# EAGLE library part ATMEGA2560 (library Atmel)
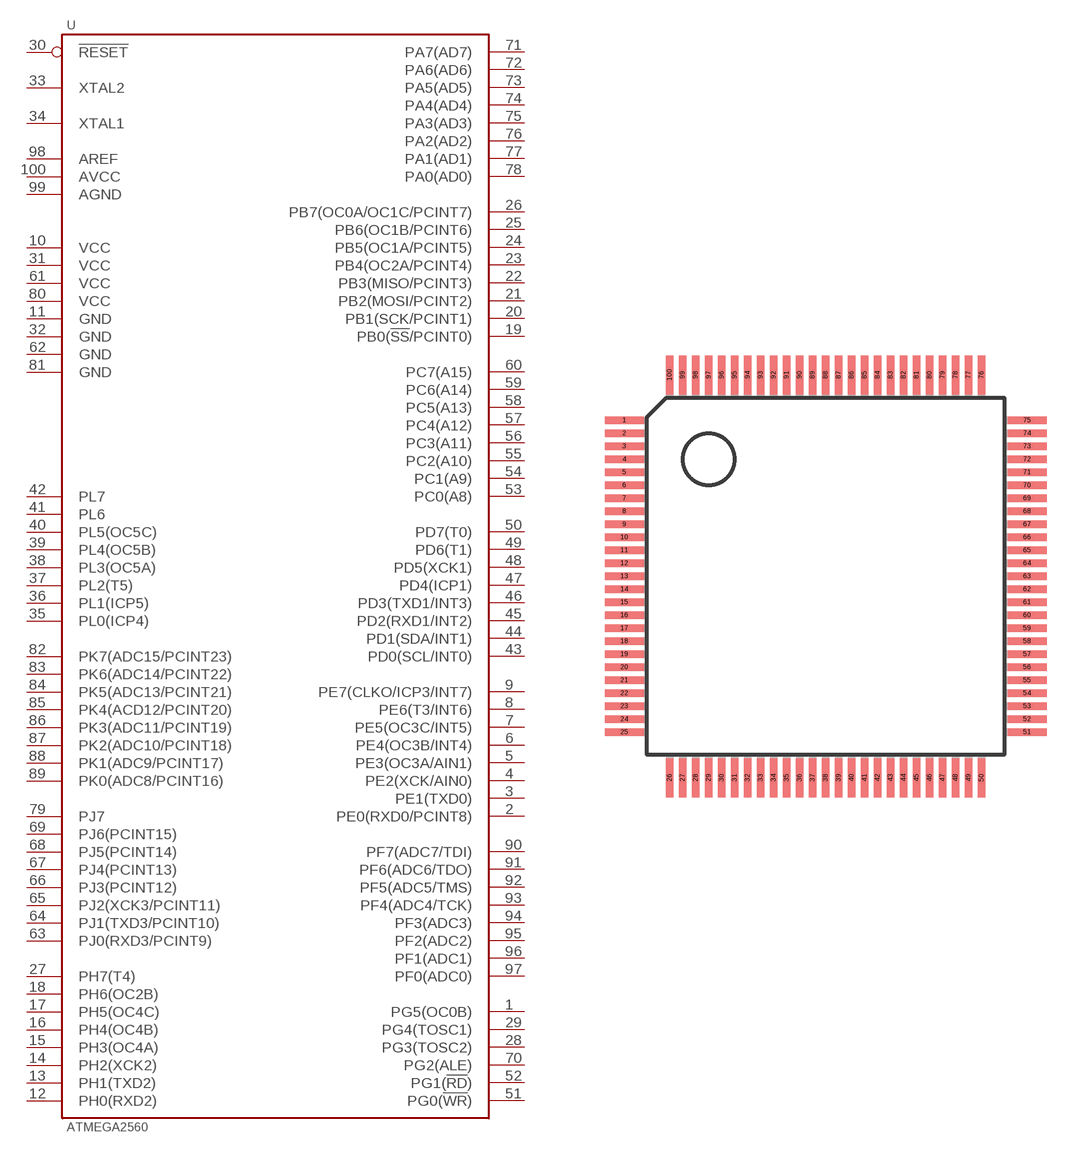
[diagram p6: symbol with the pads of TQFP-100; footprint TQFP-100]

Designator prefix U

## ATMEGA2560  [TQFP-100]
1  PG5(OC0B)
2  PE0(RXD0/PCINT8)
3  PE1(TXD0)
4  PE2(XCK/AIN0)
5  PE3(OC3A/AIN1)
6  PE4(OC3B/INT4)
7  PE5(OC3C/INT5)
8  PE6(T3/INT6)
9  PE7(CLKO/ICP3/INT7)
10  VCC
11  GND
12  PH0(RXD2)
13  PH1(TXD2)
14  PH2(XCK2)
15  PH3(OC4A)
16  PH4(OC4B)
17  PH5(OC4C)
18  PH6(OC2B)
19  PB0(!SS!/PCINT0)
20  PB1(SCK/PCINT1)
21  PB2(MOSI/PCINT2)
22  PB3(MISO/PCINT3)
23  PB4(OC2A/PCINT4)
24  PB5(OC1A/PCINT5)
25  PB6(OC1B/PCINT6)
26  PB7(OC0A/OC1C/PCINT7)
27  PH7(T4)
28  PG3(TOSC2)
29  PG4(TOSC1)
30  !RESET
31  VCC
32  GND
33  XTAL2
34  XTAL1
35  PL0(ICP4)
36  PL1(ICP5)
37  PL2(T5)
38  PL3(OC5A)
39  PL4(OC5B)
40  PL5(OC5C)
41  PL6
42  PL7
43  PD0(SCL/INT0)
44  PD1(SDA/INT1)
45  PD2(RXD1/INT2)
46  PD3(TXD1/INT3)
47  PD4(ICP1)
48  PD5(XCK1)
49  PD6(T1)
50  PD7(T0)
51  PG0(!WR!)
52  PG1(!RD!)
53  PC0(A8)
54  PC1(A9)
55  PC2(A10)
56  PC3(A11)
57  PC4(A12)
58  PC5(A13)
59  PC6(A14)
60  PC7(A15)
61  VCC
62  GND
63  PJ0(RXD3/PCINT9)
64  PJ1(TXD3/PCINT10)
65  PJ2(XCK3/PCINT11)
66  PJ3(PCINT12)
67  PJ4(PCINT13)
68  PJ5(PCINT14)
69  PJ6(PCINT15)
70  PG2(ALE)
71  PA7(AD7)
72  PA6(AD6)
73  PA5(AD5)
74  PA4(AD4)
75  PA3(AD3)
76  PA2(AD2)
77  PA1(AD1)
78  PA0(AD0)
79  PJ7
80  VCC
81  GND
82  PK7(ADC15/PCINT23)
83  PK6(ADC14/PCINT22)
84  PK5(ADC13/PCINT21)
85  PK4(ACD12/PCINT20)
86  PK3(ADC11/PCINT19)
87  PK2(ADC10/PCINT18)
88  PK1(ADC9/PCINT17)
89  PK0(ADC8/PCINT16)
90  PF7(ADC7/TDI)
91  PF6(ADC6/TDO)
92  PF5(ADC5/TMS)
93  PF4(ADC4/TCK)
94  PF3(ADC3)
95  PF2(ADC2)
96  PF1(ADC1)
97  PF0(ADC0)
98  AREF
99  AGND
100  AVCC

## Footprint TQFP-100 (pad centres in mm)
smd 1.5 x 0.27: 1 -7.75,6; 2 -7.75,5.5; 3 -7.75,5; 4 -7.75,4.5; 5 -7.75,4; 6 -7.75,3.5; 7 -7.75,3; 8 -7.75,2.5; 9 -7.75,2; 10 -7.75,1.5; 11 -7.75,1; 12 -7.75,0.5; 13 -7.75,0; 14 -7.75,-0.5; 15 -7.75,-1; 16 -7.75,-1.5; 17 -7.75,-2; 18 -7.75,-2.5; 19 -7.75,-3; 20 -7.75,-3.5; 21 -7.75,-4; 22 -7.75,-4.5; 23 -7.75,-5; 24 -7.75,-5.5; 25 -7.75,-6; 51 7.75,-6; 52 7.75,-5.5; 53 7.75,-5; 54 7.75,-4.5; 55 7.75,-4; 56 7.75,-3.5; 57 7.75,-3; 58 7.75,-2.5; 59 7.75,-2; 60 7.75,-1.5; 61 7.75,-1; 62 7.75,-0.5; 63 7.75,0; 64 7.75,0.5; 65 7.75,1; 66 7.75,1.5; 67 7.75,2; 68 7.75,2.5; 69 7.75,3; 70 7.75,3.5; 71 7.75,4; 72 7.75,4.5; 73 7.75,5; 74 7.75,5.5; 75 7.75,6
smd 0.27 x 1.5: 26 -6,-7.75; 27 -5.5,-7.75; 28 -5,-7.75; 29 -4.5,-7.75; 30 -4,-7.75; 31 -3.5,-7.75; 32 -3,-7.75; 33 -2.5,-7.75; 34 -2,-7.75; 35 -1.5,-7.75; 36 -1,-7.75; 37 -0.5,-7.75; 38 0,-7.75; 39 0.5,-7.75; 40 1,-7.75; 41 1.5,-7.75; 42 2,-7.75; 43 2.5,-7.75; 44 3,-7.75; 45 3.5,-7.75; 46 4,-7.75; 47 4.5,-7.75; 48 5,-7.75; 49 5.5,-7.75; 50 6,-7.75; 76 6,7.75; 77 5.5,7.75; 78 5,7.75; 79 4.5,7.75; 80 4,7.75; 81 3.5,7.75; 82 3,7.75; 83 2.5,7.75; 84 2,7.75; 85 1.5,7.75; 86 1,7.75; 87 0.5,7.75; 88 0,7.75; 89 -0.5,7.75; 90 -1,7.75; 91 -1.5,7.75; 92 -2,7.75; 93 -2.5,7.75; 94 -3,7.75; 95 -3.5,7.75; 96 -4,7.75; 97 -4.5,7.75; 98 -5,7.75; 99 -5.5,7.75; 100 -6,7.75